# Altium schematic symbol library 3v3_ESD_bidir.SchLib: 1 symbol
Pins are listed as number, name and electrical type; pins without a type are passive.

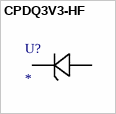
[diagram p0: symbol CPDQ3V3-HF]

## CPDQ3V3-HF
designator U?
Imported; Manufacturer_Part_Number: CPDQ3V3-HF; Vendor: Comchip; Built_By: EMA_UL_Team; RefDes: RefDes; Type: DEV; Value: Value
footprint CPDQ
pins: 1, 2